# Altium schematic symbol library HHM1520.SchLib: 1 symbol
Pins are listed as number, name and electrical type; pins without a type are passive.

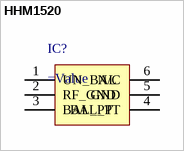
[diagram p0: symbol HHM1520]

## HHM1520
designator IC?
=Description
pins: 1 UN_BAL, 2 RF_GND, 3 BAL_PT, 4 BAL_PT, 5 GND, 6 N/C